# Altium footprint library Sheye-Connector.PcbLib: 137 footprints (part 4 of 9)
Each footprint in its own frame and in the unit in brackets; x right, y up, seen from the top. Pads: shape width x height; smd on the part's side, far side on the other; paste and mask are expansions set on the pad; w line width, h text height; cw(c..) or ccw(c..) is an arc to the next point about the centre after c.
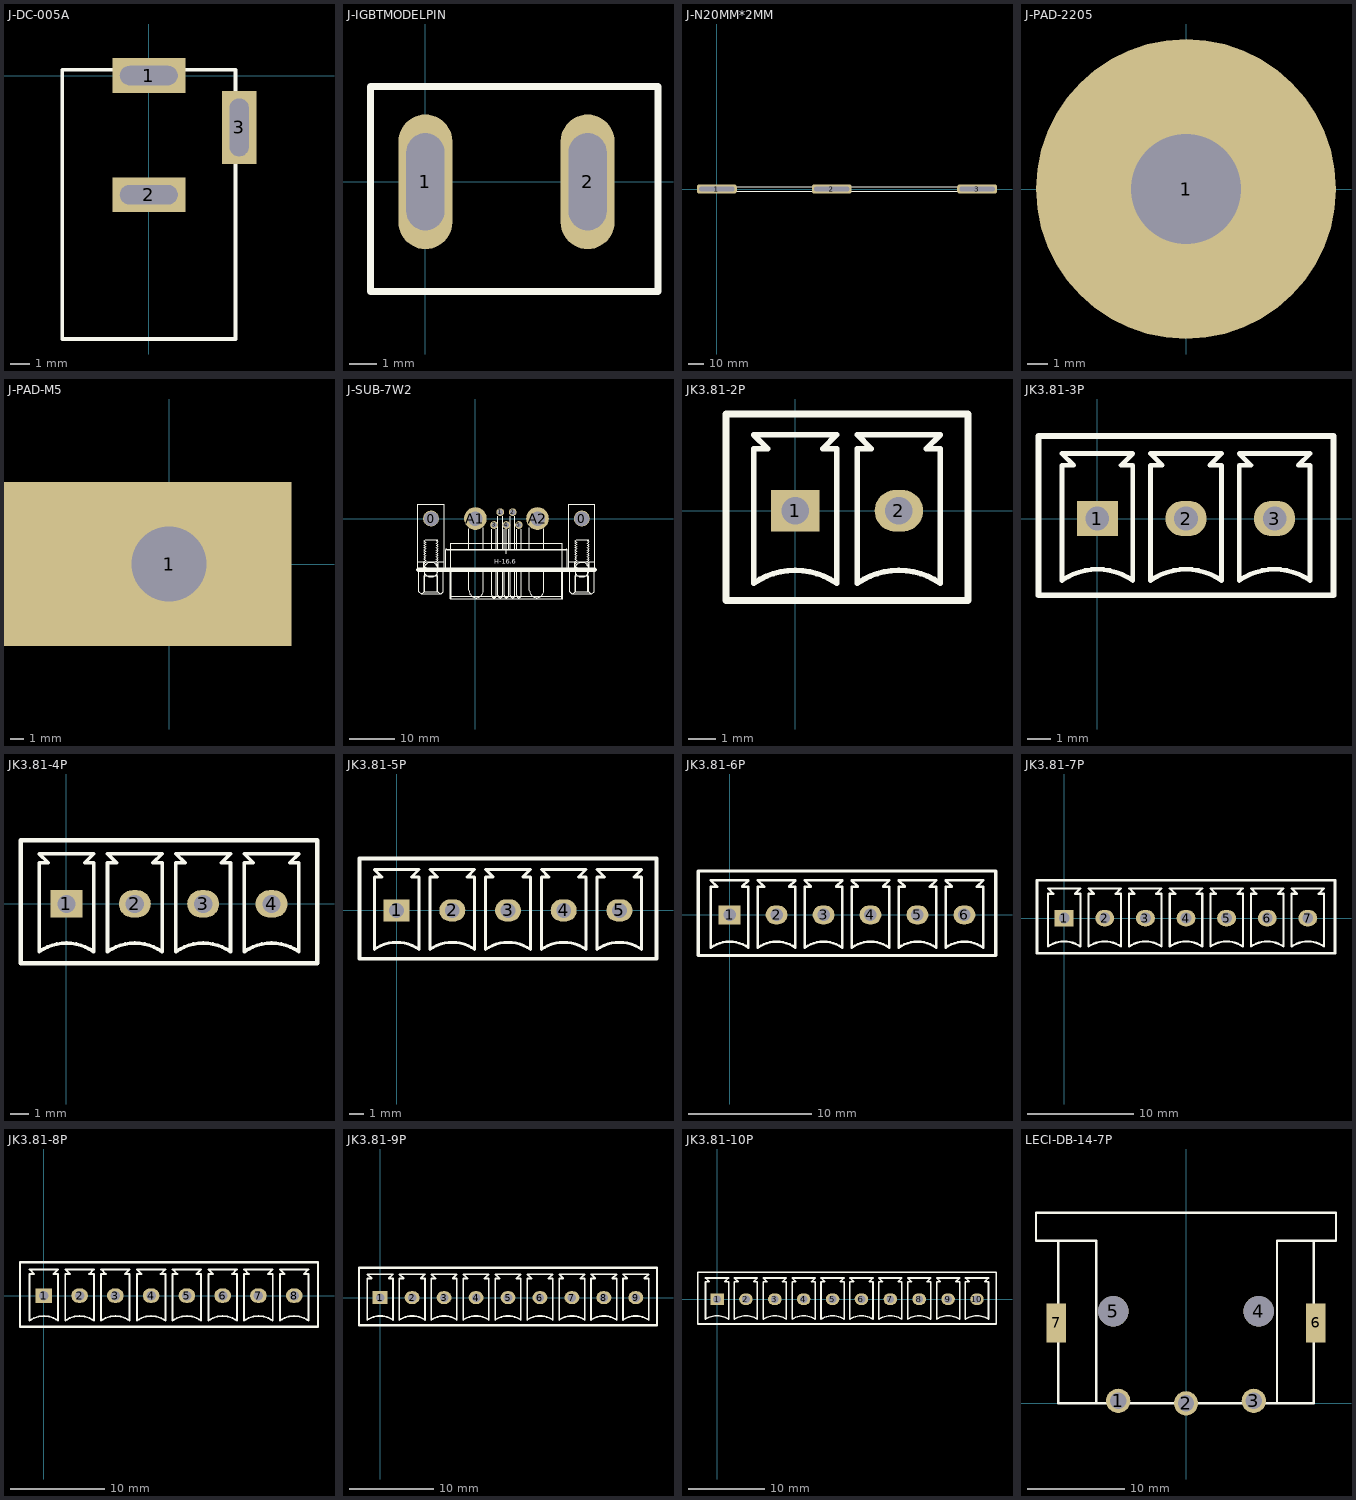
[diagram p3: the footprints below, top view; thin cyan lines are the x and y axes]

## J-DC-005A [mm]
pads (3):
  rect 3.8x1.8 hole 1 slot 3 at 0 deg: 1(0,0) 2(0,-6.2)
  rect 1.8x3.8 hole 1 slot 3 at 90 deg: 3(4.7,-2.7)
Top Overlay:
  lines w0.2: -4.5,-13.7 4.5,-13.7 4.5,0.3 -4.5,0.3 -4.5,-13.7
3D body: height 11, standoff -4, extent -4.547,-13.744 5.053,0.356

## J-IGBTMODELPIN [mm]
pads (2):
  oval 2x5 hole 1.4 slot 3.6 at 90 deg: 1(0,0) 2(6.024,0)
Top Overlay:
  lines w0.254: -2.033,-4.077 -2.033,3.543 8.635,3.543 8.635,-4.077 -2.033,-4.077
Mechanical 1:
  lines w0.3: -0.5,-1.65 0.5,-1.65 0.5,1.65 -0.5,1.65 -0.5,-1.65 ; 5.524,-1.65 6.524,-1.65 6.524,1.65 5.524,1.65 5.524,-1.65

## J-N20MM*2MM [mm]
pads (3):
  rrect50% 26x6 hole 3 slot 23 at 0 deg: 1(0,0) 2(75,0) 3(170,0)
Top Overlay:
  lines w0.5: -10,0 -10,1.5 ; -10,1.5 -10,-1.5 180,-1.5 180,1.5 -10,1.5
3D body: height 5, standoff 0, extent 157.5,-1.5 180,1.5
3D body: height 5, standoff 0, extent 62.5,-1.5 87.5,1.5
3D body: height 5, standoff 0, extent -10,-1.5 12.5,1.5
3D body: height 0, standoff -4, extent -10,-1.5 10,1.5
3D body: height 25, standoff 5, extent -10,-1.5 180,1.5
3D body: height 0, standoff -4, extent 65,-1.5 85,1.5
3D body: height 25, standoff 5, extent 160,-1.5 180,1.5

## J-PAD-2205 [mm]
pads (1):
  round 15 hole 5.5: 1(0,0)

## J-PAD-M5 [mm]
pads (1):
  rect 22x12 hole 5.5 copper offset -2,0: 1(0,0)

## J-SUB-7W2 [mm]
pads (9):
  round 3.5 hole 3.2: 0(-9.79,0) 0(23.51,0)
  round 1.7 hole 1.2: 1(5.49,1.42) 2(8.23,1.42) 3(4.12,-1.42) 4(6.86,-1.42) 5(9.6,-1.42)
  round 5 hole 3.2: A1(0,0) A2(13.72,0)
Top Overlay:
  drawing of 391 lines, arcs and shapes, not listed
  text "H-16.6" at 4.207,-9.978 h1.02
3D body: height 11.25, standoff -5.3, extent -12.767,-17.653 26.433,3.247

## JK3.81-2P [mil]
height 314.96
pads (2):
  rect 70x60 hole 40: 1(0,0)
  oval 70x60 hole 40: 2(150,0)
Top Overlay:
  lines w8: -60,-105 cw(c0,-190) 60,-105 60,90 40,90 60,110 -60,110 -40,90 -60,90 -60,-105 ; 90,-105 cw(c150,-190) 210,-105 210,90 190,90 210,110 90,110 110,90 90,90 90,-105
  lines w10: -100,-130 -100,140 250,140 250,-130 -100,-130
3D body: height 39.37, standoff 0, extent -100,-130 250,140
3D body: height 393.7, standoff 0, extent -100,-130 250,140
3D body: height 374.02, standoff -78.74, extent -14,-14 14,14
3D body: height 374.02, standoff -78.74, extent 136,-14 164,14

## JK3.81-3P [mil]
pads (3):
  rect 70x60 hole 40: 1(0,0)
  oval 70x60 hole 40: 2(150,0) 3(300,0)
Top Overlay:
  lines w8: -60,-105 cw(c0,-190) 60,-105 60,90 40,90 60,110 -60,110 -40,90 -60,90 -60,-105 ; 90,-105 cw(c150,-190) 210,-105 210,90 190,90 210,110 90,110 110,90 90,90 90,-105 ; 240,-105 cw(c300,-190) 360,-105 360,90 340,90 360,110 240,110 260,90 240,90 240,-105
  lines w10: -100,-130 -100,140 400,140 400,-130 -100,-130
3D body: height 374.02, standoff -78.74, extent 286,-14 314,14
3D body: height 374.02, standoff -78.74, extent 136,-14 164,14
3D body: height 374.02, standoff -78.74, extent -14,-14 14,14
3D body: height 393.7, standoff 0, extent -100,-130 80,140
3D body: height 393.7, standoff 0, extent 220,-130 400,140
3D body: height 393.7, standoff 0, extent 70,-130 230,140
3D body: height 39.37, standoff 0, extent -100,-130 400,140

## JK3.81-4P [mil]
pads (4):
  rect 70x60 hole 40: 1(0,0)
  oval 70x60 hole 40: 2(150,0) 3(300,0) 4(450,0)
Top Overlay:
  lines w8: -60,-105 cw(c0,-190) 60,-105 60,90 40,90 60,110 -60,110 -40,90 -60,90 -60,-105 ; 90,-105 cw(c150,-190) 210,-105 210,90 190,90 210,110 90,110 110,90 90,90 90,-105 ; 240,-105 cw(c300,-190) 360,-105 360,90 340,90 360,110 240,110 260,90 240,90 240,-105 ; 390,-105 cw(c450,-190) 510,-105 510,90 490,90 510,110 390,110 410,90 390,90 390,-105
  lines w10: -100,-130 550,-130 550,140 -100,140 -100,-130
3D body: height 39.37, standoff 0, extent -100,-130 550,140
3D body: height 393.7, standoff 0, extent 370,-130 550,140
3D body: height 393.7, standoff 0, extent -100,-130 80,140
3D body: height 393.7, standoff 0, extent 70,-130 230,140
3D body: height 393.7, standoff 0, extent 220,-130 380,140
3D body: height 374.02, standoff -78.74, extent -14,-14 14,14
3D body: height 374.02, standoff -78.74, extent 136,-14 164,14
3D body: height 374.02, standoff -78.74, extent 286,-14 314,14
3D body: height 374.02, standoff -78.74, extent 436,-14 464,14

## JK3.81-5P [mil]
pads (5):
  rect 70x60 hole 40: 1(0,0)
  oval 70x60 hole 40: 2(150,0) 3(300,0) 4(450,0) 5(600,0)
Top Overlay:
  lines w8: -60,-105 cw(c0,-190) 60,-105 60,90 40,90 60,110 -60,110 -40,90 -60,90 -60,-105 ; 90,-105 cw(c150,-190) 210,-105 210,90 190,90 210,110 90,110 110,90 90,90 90,-105 ; 240,-105 cw(c300,-190) 360,-105 360,90 340,90 360,110 240,110 260,90 240,90 240,-105 ; 390,-105 cw(c450,-190) 510,-105 510,90 490,90 510,110 390,110 410,90 390,90 390,-105 ; 540,-105 cw(c600,-190) 660,-105 660,90 640,90 660,110 540,110 560,90 540,90 540,-105
  lines w10: -100,-130 700,-130 700,140 -100,140 -100,-130
3D body: height 374.02, standoff -78.74, extent 586,-14 614,14
3D body: height 393.7, standoff 0, extent 370,-130 530,140
3D body: height 393.7, standoff 0, extent 520,-130 700,140
3D body: height 39.37, standoff 0, extent -100,-130 700,140
3D body: height 393.7, standoff 0, extent -100,-130 80,140
3D body: height 393.7, standoff 0, extent 70,-130 230,140
3D body: height 393.7, standoff 0, extent 220,-130 380,140
3D body: height 374.02, standoff -78.74, extent -14,-14 14,14
3D body: height 374.02, standoff -78.74, extent 136,-14 164,14
3D body: height 374.02, standoff -78.74, extent 286,-14 314,14
3D body: height 374.02, standoff -78.74, extent 436,-14 464,14

## JK3.81-6P [mil]
pads (6):
  rect 70x60 hole 40: 1(0,0)
  oval 70x60 hole 40: 2(150,0) 3(300,0) 4(450,0) 5(600,0) 6(750,0)
Top Overlay:
  lines w8: -60,-105 cw(c0,-190) 60,-105 60,90 40,90 60,110 -60,110 -40,90 -60,90 -60,-105 ; 90,-105 cw(c150,-190) 210,-105 210,90 190,90 210,110 90,110 110,90 90,90 90,-105 ; 240,-105 cw(c300,-190) 360,-105 360,90 340,90 360,110 240,110 260,90 240,90 240,-105 ; 390,-105 cw(c450,-190) 510,-105 510,90 490,90 510,110 390,110 410,90 390,90 390,-105 ; 540,-105 cw(c600,-190) 660,-105 660,90 640,90 660,110 540,110 560,90 540,90 540,-105 ; 690,-105 cw(c750,-190) 810,-105 810,90 790,90 810,110 690,110 710,90 690,90 690,-105
  lines w10: -100,-130 -100,140 850,140 850,-130 -100,-130
3D body: height 374.02, standoff -78.74, extent 736,-14 764,14
3D body: height 393.7, standoff 0, extent 520,-130 680,140
3D body: height 393.7, standoff 0, extent 670,-130 850,140
3D body: height 374.02, standoff -78.74, extent 586,-14 614,14
3D body: height 393.7, standoff 0, extent 370,-130 530,140
3D body: height 39.37, standoff 0, extent -100,-130 850,140
3D body: height 393.7, standoff 0, extent -100,-130 80,140
3D body: height 393.7, standoff 0, extent 70,-130 230,140
3D body: height 393.7, standoff 0, extent 220,-130 380,140
3D body: height 374.02, standoff -78.74, extent -14,-14 14,14
3D body: height 374.02, standoff -78.74, extent 136,-14 164,14
3D body: height 374.02, standoff -78.74, extent 286,-14 314,14
3D body: height 374.02, standoff -78.74, extent 436,-14 464,14

## JK3.81-7P [mil]
pads (7):
  rect 70x60 hole 40: 1(0,0)
  oval 70x60 hole 40: 2(150,0) 3(300,0) 4(450,0) 5(600,0) 6(750,0) 7(900,0)
Top Overlay:
  lines w8: -60,-105 cw(c0,-190) 60,-105 60,90 40,90 60,110 -60,110 -40,90 -60,90 -60,-105 ; 90,-105 cw(c150,-190) 210,-105 210,90 190,90 210,110 90,110 110,90 90,90 90,-105 ; 240,-105 cw(c300,-190) 360,-105 360,90 340,90 360,110 240,110 260,90 240,90 240,-105 ; 390,-105 cw(c450,-190) 510,-105 510,90 490,90 510,110 390,110 410,90 390,90 390,-105 ; 540,-105 cw(c600,-190) 660,-105 660,90 640,90 660,110 540,110 560,90 540,90 540,-105 ; 690,-105 cw(c750,-190) 810,-105 810,90 790,90 810,110 690,110 710,90 690,90 690,-105 ; 840,-105 cw(c900,-190) 960,-105 960,90 940,90 960,110 840,110 860,90 840,90 840,-105
  lines w10: -100,-130 -100,140 1000,140 1000,-130 -100,-130
3D body: height 374.02, standoff -78.74, extent 736,-14 764,14
3D body: height 393.7, standoff 0, extent 520,-130 680,140
3D body: height 374.02, standoff -78.74, extent 586,-14 614,14
3D body: height 393.7, standoff 0, extent 370,-130 530,140
3D body: height 39.37, standoff 0, extent -100,-130 1000,140
3D body: height 393.7, standoff 0, extent -100,-130 80,140
3D body: height 393.7, standoff 0, extent 70,-130 230,140
3D body: height 393.7, standoff 0, extent 220,-130 380,140
3D body: height 374.02, standoff -78.74, extent -14,-14 14,14
3D body: height 374.02, standoff -78.74, extent 136,-14 164,14
3D body: height 374.02, standoff -78.74, extent 286,-14 314,14
3D body: height 374.02, standoff -78.74, extent 436,-14 464,14
3D body: height 393.7, standoff 0, extent 820,-130 1000,140
3D body: height 393.7, standoff 0, extent 670,-130 830,140
3D body: height 374.02, standoff -78.74, extent 886,-14 914,14

## JK3.81-8P [mil]
pads (8):
  rect 70x60 hole 40: 1(0,0)
  oval 70x60 hole 40: 2(150,0) 3(300,0) 4(450,0) 5(600,0) 6(750,0) 7(900,0) 8(1050,0)
Top Overlay:
  lines w8: -60,-105 cw(c0,-190) 60,-105 60,90 40,90 60,110 -60,110 -40,90 -60,90 -60,-105 ; 90,-105 cw(c150,-190) 210,-105 210,90 190,90 210,110 90,110 110,90 90,90 90,-105 ; 240,-105 cw(c300,-190) 360,-105 360,90 340,90 360,110 240,110 260,90 240,90 240,-105 ; 390,-105 cw(c450,-190) 510,-105 510,90 490,90 510,110 390,110 410,90 390,90 390,-105 ; 540,-105 cw(c600,-190) 660,-105 660,90 640,90 660,110 540,110 560,90 540,90 540,-105 ; 690,-105 cw(c750,-190) 810,-105 810,90 790,90 810,110 690,110 710,90 690,90 690,-105 ; 840,-105 cw(c900,-190) 960,-105 960,90 940,90 960,110 840,110 860,90 840,90 840,-105 ; 990,-105 cw(c1050,-190) 1110,-105 1110,90 1090,90 1110,110 990,110 1010,90 990,90 990,-105
  lines w10: -100,-130 1150,-130 1150,140 -100,140 -100,-130
3D body: height 374.02, standoff -78.74, extent 1036,-14 1064,14
3D body: height 393.7, standoff 0, extent 820,-130 980,140
3D body: height 393.7, standoff 0, extent 970,-130 1150,140
3D body: height 374.02, standoff -78.74, extent 736,-14 764,14
3D body: height 393.7, standoff 0, extent 520,-130 680,140
3D body: height 374.02, standoff -78.74, extent 586,-14 614,14
3D body: height 393.7, standoff 0, extent 370,-130 530,140
3D body: height 39.37, standoff 0, extent -100,-130 1150,140
3D body: height 393.7, standoff 0, extent -100,-130 80,140
3D body: height 393.7, standoff 0, extent 70,-130 230,140
3D body: height 393.7, standoff 0, extent 220,-130 380,140
3D body: height 374.02, standoff -78.74, extent -14,-14 14,14
3D body: height 374.02, standoff -78.74, extent 136,-14 164,14
3D body: height 374.02, standoff -78.74, extent 286,-14 314,14
3D body: height 374.02, standoff -78.74, extent 436,-14 464,14
3D body: height 393.7, standoff 0, extent 670,-130 830,140
3D body: height 374.02, standoff -78.74, extent 886,-14 914,14

## JK3.81-9P [mil]
pads (9):
  rect 70x60 hole 40: 1(0,0)
  oval 70x60 hole 40: 2(150,0) 3(300,0) 4(450,0) 5(600,0) 6(750,0) 7(900,0) 8(1050,0) 9(1200,0)
Top Overlay:
  lines w8: -60,-105 cw(c0,-190) 60,-105 60,90 40,90 60,110 -60,110 -40,90 -60,90 -60,-105 ; 90,-105 cw(c150,-190) 210,-105 210,90 190,90 210,110 90,110 110,90 90,90 90,-105 ; 240,-105 cw(c300,-190) 360,-105 360,90 340,90 360,110 240,110 260,90 240,90 240,-105 ; 390,-105 cw(c450,-190) 510,-105 510,90 490,90 510,110 390,110 410,90 390,90 390,-105 ; 540,-105 cw(c600,-190) 660,-105 660,90 640,90 660,110 540,110 560,90 540,90 540,-105 ; 690,-105 cw(c750,-190) 810,-105 810,90 790,90 810,110 690,110 710,90 690,90 690,-105 ; 840,-105 cw(c900,-190) 960,-105 960,90 940,90 960,110 840,110 860,90 840,90 840,-105 ; 990,-105 cw(c1050,-190) 1110,-105 1110,90 1090,90 1110,110 990,110 1010,90 990,90 990,-105 ; 1140,-105 cw(c1200,-190) 1260,-105 1260,90 1240,90 1260,110 1140,110 1160,90 1140,90 1140,-105
  lines w10: -100,-130 -100,140 1300,140 1300,-130 -100,-130
3D body: height 374.02, standoff -78.74, extent 1186,-14 1214,14
3D body: height 393.7, standoff 0, extent 970,-130 1130,140
3D body: height 393.7, standoff 0, extent 1120,-130 1300,140
3D body: height 374.02, standoff -78.74, extent 886,-14 914,14
3D body: height 393.7, standoff 0, extent 670,-130 830,140
3D body: height 374.02, standoff -78.74, extent 436,-14 464,14
3D body: height 374.02, standoff -78.74, extent 286,-14 314,14
3D body: height 374.02, standoff -78.74, extent 136,-14 164,14
3D body: height 374.02, standoff -78.74, extent -14,-14 14,14
3D body: height 393.7, standoff 0, extent 220,-130 380,140
3D body: height 393.7, standoff 0, extent 70,-130 230,140
3D body: height 393.7, standoff 0, extent -100,-130 80,140
3D body: height 39.37, standoff 0, extent -100,-130 1300,140
3D body: height 393.7, standoff 0, extent 370,-130 530,140
3D body: height 374.02, standoff -78.74, extent 586,-14 614,14
3D body: height 393.7, standoff 0, extent 520,-130 680,140
3D body: height 374.02, standoff -78.74, extent 736,-14 764,14
3D body: height 393.7, standoff 0, extent 820,-130 980,140
3D body: height 374.02, standoff -78.74, extent 1036,-14 1064,14

## JK3.81-10P [mil]
pads (10):
  rect 70x60 hole 40: 1(0,0)
  oval 70x60 hole 40: 2(150,0) 3(300,0) 4(450,0) 5(600,0) 6(750,0) 7(900,0) 8(1050,0) 9(1200,0) 10(1350,0)
Top Overlay:
  lines w8: -60,-105 cw(c0,-190) 60,-105 60,90 40,90 60,110 -60,110 -40,90 -60,90 -60,-105 ; 90,-105 cw(c150,-190) 210,-105 210,90 190,90 210,110 90,110 110,90 90,90 90,-105 ; 240,-105 cw(c300,-190) 360,-105 360,90 340,90 360,110 240,110 260,90 240,90 240,-105 ; 390,-105 cw(c450,-190) 510,-105 510,90 490,90 510,110 390,110 410,90 390,90 390,-105 ; 540,-105 cw(c600,-190) 660,-105 660,90 640,90 660,110 540,110 560,90 540,90 540,-105 ; 690,-105 cw(c750,-190) 810,-105 810,90 790,90 810,110 690,110 710,90 690,90 690,-105 ; 840,-105 cw(c900,-190) 960,-105 960,90 940,90 960,110 840,110 860,90 840,90 840,-105 ; 990,-105 cw(c1050,-190) 1110,-105 1110,90 1090,90 1110,110 990,110 1010,90 990,90 990,-105 ; 1140,-105 cw(c1200,-190) 1260,-105 1260,90 1240,90 1260,110 1140,110 1160,90 1140,90 1140,-105 ; 1290,-105 cw(c1350,-190) 1410,-105 1410,90 1390,90 1410,110 1290,110 1310,90 1290,90 1290,-105
  lines w10: -100,-130 -100,140 1450,140 1450,-130 -100,-130
3D body: height 374.02, standoff -78.74, extent 1036,-14 1064,14
3D body: height 393.7, standoff 0, extent 820,-130 980,140
3D body: height 374.02, standoff -78.74, extent 736,-14 764,14
3D body: height 393.7, standoff 0, extent 520,-130 680,140
3D body: height 374.02, standoff -78.74, extent 586,-14 614,14
3D body: height 393.7, standoff 0, extent 370,-130 530,140
3D body: height 39.37, standoff 0, extent -100,-130 1450,140
3D body: height 393.7, standoff 0, extent -100,-130 80,140
3D body: height 393.7, standoff 0, extent 70,-130 230,140
3D body: height 393.7, standoff 0, extent 220,-130 380,140
3D body: height 374.02, standoff -78.74, extent -14,-14 14,14
3D body: height 374.02, standoff -78.74, extent 136,-14 164,14
3D body: height 374.02, standoff -78.74, extent 286,-14 314,14
3D body: height 374.02, standoff -78.74, extent 436,-14 464,14
3D body: height 393.7, standoff 0, extent 670,-130 830,140
3D body: height 374.02, standoff -78.74, extent 886,-14 914,14
3D body: height 393.7, standoff 0, extent 970,-130 1130,140
3D body: height 374.02, standoff -78.74, extent 1186,-14 1214,14
3D body: height 374.02, standoff -78.74, extent 1336,-14 1364,14
3D body: height 393.7, standoff 0, extent 1270,-130 1450,140
3D body: height 393.7, standoff 0, extent 1120,-130 1280,140

## LECI-DB-14-7P [mm] "DB-14-7P"
pads (7):
  round 2.5 hole 1.7: 1(-7,0.254) 2(0,0) 3(7,0.254)
  round 3.15 hole 3.15 unplated: 4(7.5,9.5) 5(-7.5,9.5)
  rect 2x4 all layers, no hole: 6(13.4,8.3) 7(-13.4,8.3)
Top Overlay:
  lines w0.254: -9.271,0.015 -9.271,16.779 -13.208,16.779 ; 9.398,0.015 9.398,16.779 13.208,16.779 ; -13.208,16.779 -15.494,16.779 -15.494,19.7 15.494,19.7 15.494,16.779 13.208,16.779 ; -13.208,16.779 -13.208,0.015 13.208,0.015 13.208,16.779
Mechanical 1:
  lines w0.254: -13.858,7.327 -13.096,7.327 -13.096,9.867 -13.858,9.867 -13.858,7.327 ; 12.942,7.327 12.942,9.867 13.704,9.867 13.704,7.327 12.942,7.327
3D body: height 25, standoff 0, extent -15.494,0 15.494,19.685